# Altium footprint library Conv_buck_R0.PcbLib: 47 footprints (part 3 of 3)
Each footprint in its own frame and in the unit in brackets; x right, y up, seen from the top. Pads: shape width x height; smd on the part's side, far side on the other; paste and mask are expansions set on the pad; w line width, h text height; cw(c..) or ccw(c..) is an arc to the next point about the centre after c.
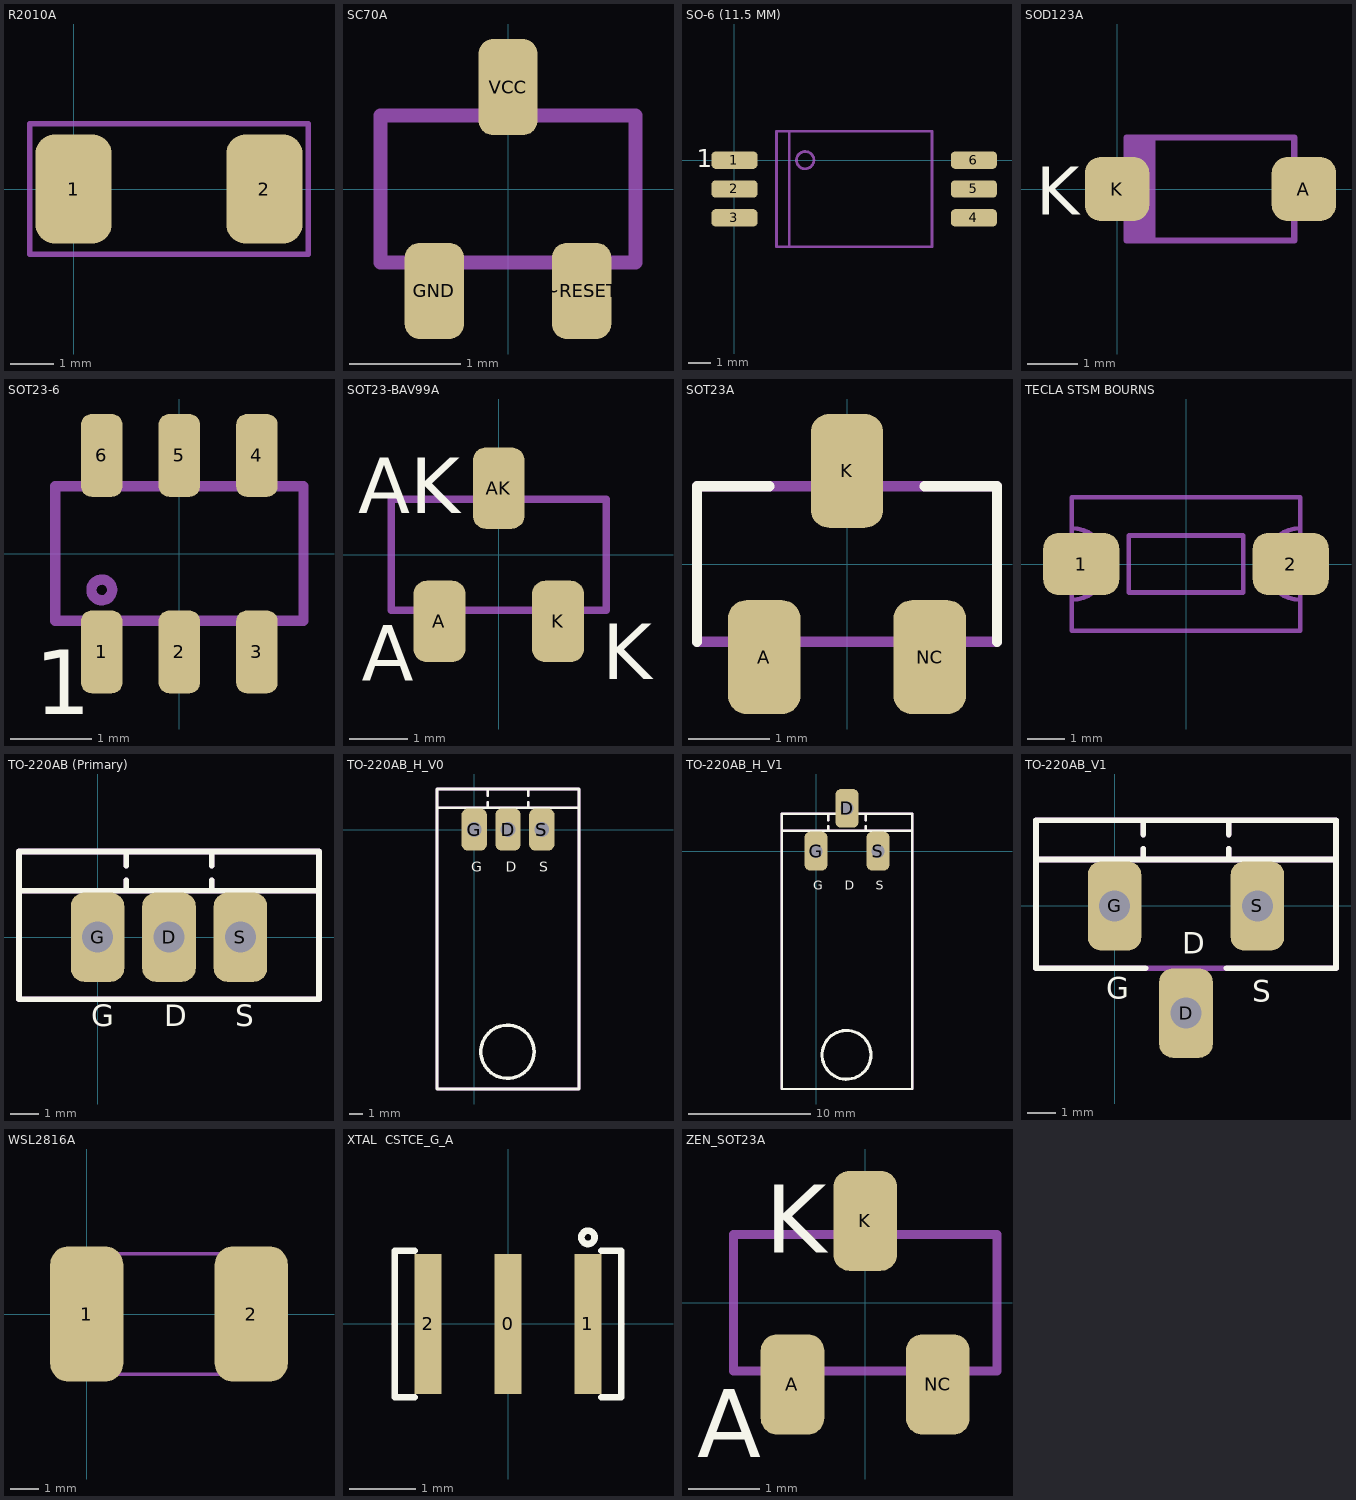
[diagram p2: the footprints below, top view; thin cyan lines are the x and y axes]

## R2010A [mil]
pads (2):
  rrect50% 70x100 smd: 1(0,0) 2(175,0)
Mechanical 4:
  lines w5: -40,-60 -40,60 215,60 215,-60 -40,-60
3D body: height 21.65, standoff 0, extent -10.92,-49.6 185.93,49.61

## SC70A [mil]
pads (3):
  rrect50% 20.98x34 smd: GND(-26,-36) VCC(0,36) ~RESET(26,-36)
Mechanical 4:
  lines w5: -45,-26 -45,26 45,26 45,-26 -45,-26
3D body: height 43.7, standoff 0, extent -44.29,-44.29 44.29,44.29

## SO-6 (11.5 MM) [mil]
pads (6):
  rrect50% 80x30 smd: 1(0,0) 2(0,-50) 3(0,-100) 4(415,-100) 5(415,-50) 6(415,0)
Top Overlay:
  text "1" at -65,-12 h31.25
Mechanical 4:
  circle w5: c122.5,0 r15
  lines w5: 95,-150 95,50 ; 72.5,-150 342.5,-150 342.5,50 72.5,50 72.5,-150
3D body: height 129.92, standoff 0.6, extent -19.38,-140 433.38,40.31

## SOD123A [mil]
pads (2):
  rrect50% 50x50 smd: A(145,0) K(0,0)
Top Overlay:
  text "K" at -63,-20 h37.5
Mechanical 4:
  lines w5: 12.5,-40 12.5,40 ; 17.5,-40 17.5,37.5 ; 22.5,-40 22.5,40 ; 27.5,-40 27.5,40 ; 7.5,-40 7.5,40 137.5,40 137.5,-40 7.5,-40
3D body: height 57.09, standoff 0, extent -2.79,-33.93 148.79,33

## SOT23-6 [mil]
pads (6):
  rrect50% 20x40 smd: 1(-37.5,-47.5) 2(0,-47.5) 3(37.5,-47.5) 4(37.5,47.5) 5(0,47.5) 6(-37.5,47.5)
Top Overlay:
  text "1" at -70,-77.5 h31.25
Mechanical 4:
  circle w5: c-37.5,-17.5 r5
  lines w5: -60,-32.5 60,-32.5 60,32.5 -60,32.5 -60,-32.5
3D body: height 57.09, standoff 0, extent -57.08,-55.11 57.09,55.12

## SOT23-BAV99A [mil]
pads (3):
  rrect50% 35x55 smd: A(-40,-45) AK(0,45) K(40,-45)
Top Overlay:
  text "K" at 70,-84 h37.5
  text "AK" at -95,28 h37.5
  text "A" at -92.5,-85 h37.5
Mechanical 4:
  lines w5: -72.5,-37.5 72.5,-37.5 72.5,37.5 -72.5,37.5 -72.5,-37.5
3D body: height 51.18, standoff 0, extent -57.09,-55.12 57.09,55.12

## SOT23A [mil]
pads (3):
  rrect50% 35x55 smd: A(-40,-45) K(0,45) NC(40,-45)
Top Overlay:
  lines w5: -72.5,-37.5 -72.5,37.5 -37.5,37.5 ; 37.5,37.5 72.5,37.5 72.5,-37.5
Mechanical 4:
  lines w5: -72.5,-37.5 -72.5,37.5 72.5,37.5 72.5,-37.5 -72.5,-37.5
3D body: height 51.18, standoff 0, extent -57.09,-55.12 57.09,55.12

## TECLA STSM BOURNS [mil]
pads (2):
  rrect50% 80x65 smd: 1(-110,0) 2(110,0)
Mechanical 4:
  lines w5: -120,-37.5 ccw(c-120,0) -120,37.5 ; -120,-20 -142.5,-20 -142.5,20 -120,20 ; 120,-37.5 cw(c120,0) 120,37.5 ; 120,-20 142.5,-20 142.5,20 120,20 ; -120,-70 120,-70 120,70 -120,70 -120,-70 ; -60,-30 60,-30 60,30 -60,30 -60,-30
3D body: height 169.29, standoff 0, extent -139.73,-69 143.73,68.79

## TO-220AB (Primary) [mm]
pads (3):
  rrect50% 1.905x3.175 hole 1.1: D(2.54,0) G(0,0) S(5.08,0)
Top Overlay:
  lines w0.2: -2.794,1.651 7.874,1.651 ; 1.016,1.651 1.016,2.032 ; 1.016,2.54 1.016,3.048 ; 4.064,1.651 4.064,2.032 ; 4.064,2.54 4.064,3.048 ; -2.794,-2.21 -2.794,0.254 -2.794,3.048 7.874,3.048 7.874,0.254 7.874,-2.21 -2.794,-2.21
  text "D" at 2.362,-3.175 h0.76
  text "S" at 4.902,-3.175 h0.76
  text "G" at -0.229,-3.175 h0.76
Mechanical 1:
  lines w0.2: -2.794,1.651 7.874,1.651 ; 1.016,1.651 1.016,2.032 ; 1.016,2.54 1.016,3.048 ; 4.064,1.651 4.064,2.032 ; 4.064,2.54 4.064,3.048 ; -2.794,-2.21 -2.794,0.254 -2.794,3.048 7.874,3.048 7.874,0.254 7.874,-2.21 -2.794,-2.21
3D body: height 19.89, standoff -3.97, extent -2.795,-2.184 7.875,2.646

## TO-220AB_H_V0 [mm]
pads (3):
  rrect50% 1.905x3.175 hole 1.1: D(2.54,0) G(0,0) S(5.08,0)
Top Overlay:
  circle w0.254: c2.5,-16.7 r2
  lines w0.2: -2.794,1.651 7.874,1.651 ; 1.016,1.651 1.016,2.032 ; 1.016,2.54 1.016,3.048 ; 4.064,1.651 4.064,2.032 ; 4.064,2.54 4.064,3.048 ; -2.794,-19.5 7.874,-19.5 7.874,0.254 7.874,3.048 -2.794,3.048 -2.794,0.254 -2.794,-19.5
  text "G" at -0.229,-3.175 h0.76
  text "S" at 4.902,-3.175 h0.76
  text "D" at 2.362,-3.175 h0.76
Mechanical 1:
  lines w0.2: -2.794,1.651 7.874,1.651 ; 1.016,1.651 1.016,2.032 ; 1.016,2.54 1.016,3.048 ; 4.064,1.651 4.064,2.032 ; 4.064,2.54 4.064,3.048 ; -2.794,-19.5 7.874,-19.5 7.874,0.254 7.874,3.048 -2.794,3.048 -2.794,0.254 -2.794,-19.5
3D body: height 6, standoff -2.2, extent -2.5,-19.504 7.5,0.2

## TO-220AB_H_V1 [mm]
pads (3):
  rrect50% 1.905x3.175 hole 1.1: D(2.54,3.5) G(0,0) S(5.08,0)
Top Overlay:
  circle w0.254: c2.5,-16.7 r2
  lines w0.2: -2.794,1.651 7.874,1.651 ; 1.016,1.651 1.016,2.032 ; 1.016,2.54 1.016,3.048 ; 4.064,1.651 4.064,2.032 ; 4.064,2.54 4.064,3.048 ; -2.794,-19.5 7.874,-19.5 7.874,0.254 7.874,3.048 -2.794,3.048 -2.794,0.254 -2.794,-19.5
  text "G" at -0.229,-3.175 h0.76
  text "S" at 4.902,-3.175 h0.76
  text "D" at 2.362,-3.175 h0.76
Mechanical 1:
  lines w0.2: -2.794,1.651 7.874,1.651 ; 1.016,1.651 1.016,2.032 ; 1.016,2.54 1.016,3.048 ; 4.064,1.651 4.064,2.032 ; 4.064,2.54 4.064,3.048 ; -2.794,-19.5 7.874,-19.5 7.874,0.254 7.874,3.048 -2.794,3.048 -2.794,0.254 -2.794,-19.5
3D body: height 6, standoff -2.2, extent -2.5,-19.504 7.5,0.2

## TO-220AB_V1 [mm]
pads (3):
  rrect50% 1.905x3.175 hole 1.1: D(2.54,-3.81) G(0,0) S(5.08,0)
Top Overlay:
  lines w0.2: -2.794,1.651 7.874,1.651 ; 1.016,1.651 1.016,2.032 ; 1.016,2.54 1.016,3.048 ; 1.1,-2.21 -2.794,-2.21 -2.794,0.254 -2.794,3.048 7.874,3.048 7.874,0.254 7.874,-2.21 3.98,-2.21 ; 4.064,1.651 4.064,2.032 ; 4.064,2.54 4.064,3.048
  text "G" at -0.3,-3.3 h0.76
  text "S" at 4.9,-3.4 h0.76
  text "D" at 2.4,-1.7 h0.76
Mechanical 1:
  lines w0.2: -2.794,1.651 7.874,1.651 ; 1.016,1.651 1.016,2.032 ; 1.016,2.54 1.016,3.048 ; 4.064,1.651 4.064,2.032 ; 4.064,2.54 4.064,3.048 ; -2.794,-2.21 7.874,-2.21 7.874,0.254 7.874,3.048 -2.794,3.048 -2.794,0.254 -2.794,-2.21
3D body: height 19.89, standoff -3.97, extent -2.795,-2.184 7.875,2.646

## WSL2816A [mm]
pads (2):
  rrect50% 2.54x4.7 smd: 1(0,0) 2(5.715,0)
Mechanical 4:
  lines w0.127: -0.699,-2.095 6.413,-2.095 6.413,2.095 -0.699,2.095 -0.699,-2.095
3D body: height 0.91, standoff 0.03, extent -0.818,-2.223 6.532,2.227

## XTAL  CSTCE_G_A [mm]
height 1
pads (3):
  rect 0.4x2.1 smd: 0(0,0) 1(1.2,0) 2(-1.2,0)
Top Overlay:
  circle w0.1: c1.2,1.3 r0.1
  lines w0.1: -1.4,-1.1 -1.7,-1.1 -1.7,1.1 -1.4,1.1 ; 1.4,-1.1 1.7,-1.1 1.7,1.1 1.4,1.1
3D body: height 0.7, standoff 0, extent -1.6,-0.6 1.6,0.7

## ZEN_SOT23A [mil]
pads (3):
  rrect50% 35x55 smd: A(-40,-45) K(0,45) NC(40,-45)
Top Overlay:
  text "K" at -55,27.5 h37.5
  text "A" at -92.5,-85 h37.5
Mechanical 4:
  lines w5: -72.5,-37.5 72.5,-37.5 72.5,37.5 -72.5,37.5 -72.5,-37.5
3D body: height 51.18, standoff 0, extent -57.09,-55.12 57.09,55.12